# EAGLE library part TL072 (library AnalogICs)
TL072 Dual Low-Noise JFET-Input Op Amp
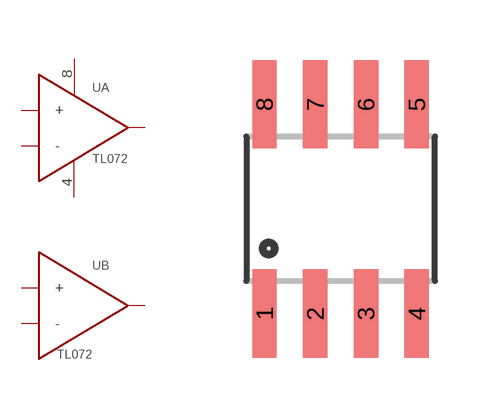
[diagram p0: symbol with the pads of SO08; footprint SO08]

Designator prefix U; gates A=TL072_PWR B=TL072

## TL072SOIC  [SO08]
1  A:OUT  out
2  A:-  in
3  A:+  in
4  A:4  pwr
5  B:+  in
6  B:-  in
7  B:OUT  out
8  A:8  pwr

## Footprint SO08 (pad centres in mm)
Small Outline Package Fits JEDEC packages (narrow SOIC-8)
smd 0.61 x 2.21: 1 -1.905,-2.616; 2 -0.635,-2.616; 3 0.635,-2.616; 4 1.905,-2.616; 5 1.905,2.616; 6 0.635,2.616; 7 -0.635,2.616; 8 -1.905,2.616